# Altium footprint library BEADC1608X75L40N.PcbLib: 1 footprints
Each footprint in its own frame and in the unit in brackets; x right, y up, seen from the top. Pads: shape width x height; smd on the part's side, far side on the other; paste and mask are expansions set on the pad; w line width, h text height; cw(c..) or ccw(c..) is an arc to the next point about the centre after c.
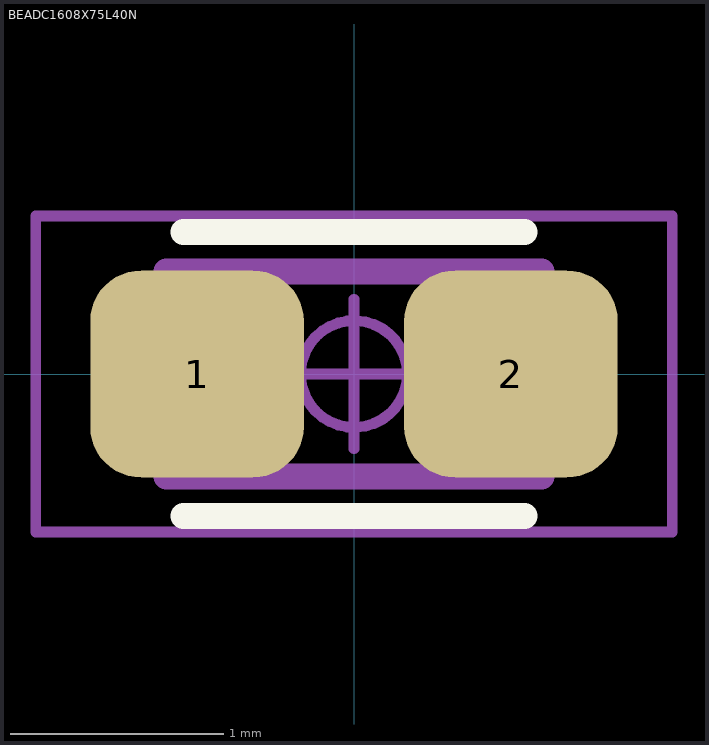
[diagram p0: the footprint, top view; thin cyan lines are the x and y axes]

## BEADC1608X75L40N [mm] "Ferrite Bead, Chip; 1.60 mm L X 0.80 mm W X 0.75 mm H body"
height 0.75
pads (2):
  rrect49% 1x0.97 smd: 1(-0.735,0) 2(0.735,0)
Top Overlay:
  lines w0.12: -0.8,-0.665 0.8,-0.665 ; -0.8,0.665 0.8,0.665
Mechanical 11:
  lines w0.12: -0.88,-0.48 -0.88,0.48 0.88,0.48 0.88,-0.48 -0.88,-0.48
Mechanical 15:
  circle w0.05: c0,0 r0.25
  lines w0.05: -0.35,0 0.35,0 ; 0,-0.35 0,0.35 ; -1.49,-0.74 -1.49,0.74 1.49,0.74 1.49,-0.74 -1.49,-0.74
3D body: height 0.6, standoff 0, extent -0.8,-0.4 0.8,0.4